# Altium schematic symbol library Miscellaneous.SchLib: 28 symbols
Pins are listed as number, name and electrical type; pins without a type are passive.

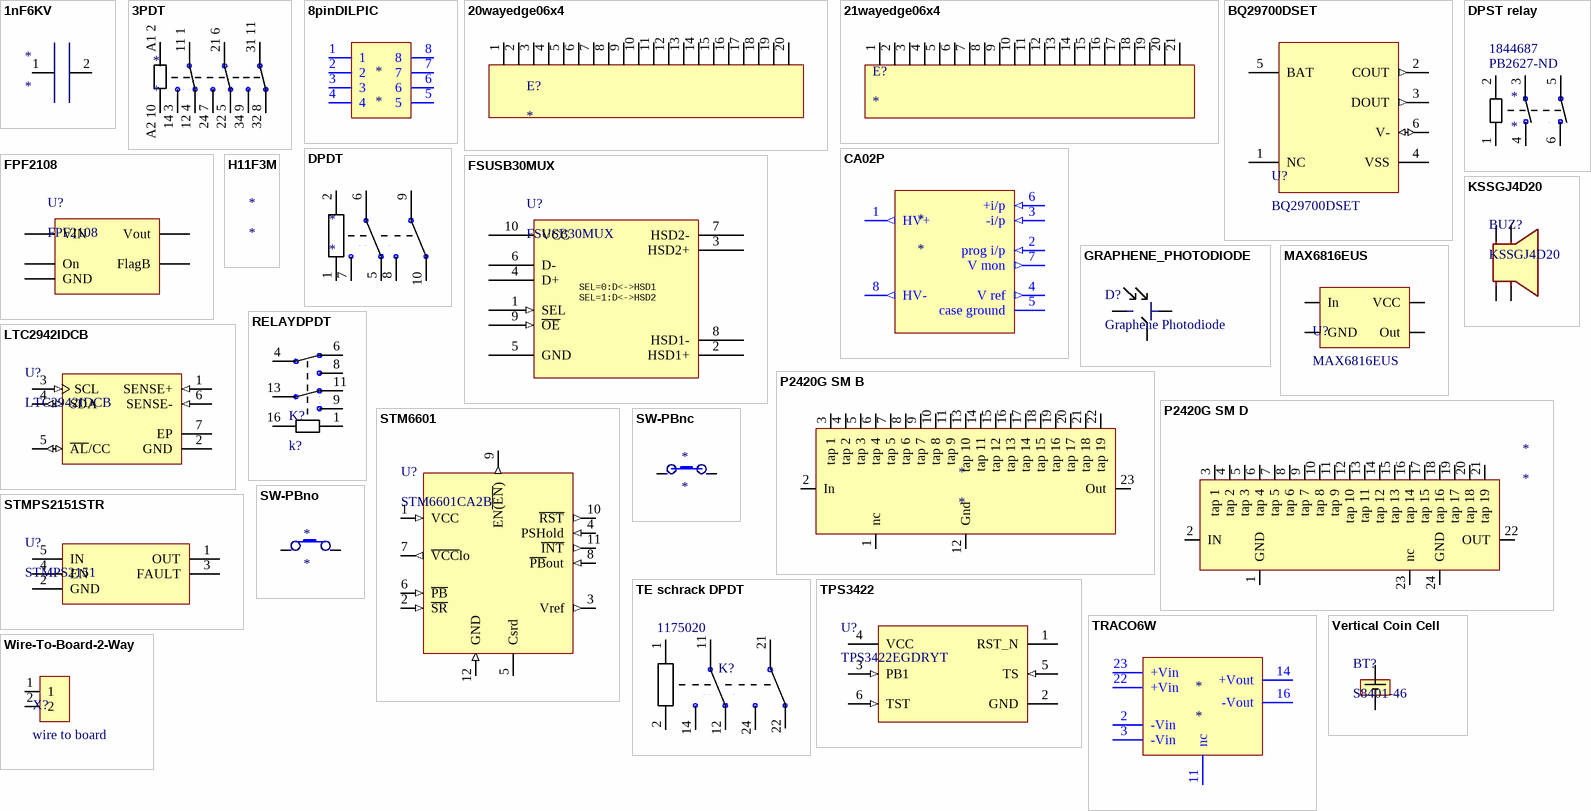
[diagram p0: symbols 1nF6KV to Wire-To-Board-2-Way]

## 1nF6KV
designator *
footprint 1nF@6KV; pin to pad 1>12 2>13
pins: 1, 2

## 3PDT
designator *
finder 60.13 relay
pins: 11 1 6, 12 4 5, 14 3 7, 21 6 9, 22 5 10, 24 7 8, 31 11 9, 32 8 10, 34 9 8, A1 2 A1, A2 10 A2

## 8pinDILPIC
designator *
footprint 8DIL PIC
pins: 1, 2, 3, 4, 5, 6, 7, 8

## 20wayedge06x4
designator E?
20wayedge06x4
footprint 20wayedge06x4
pins: 1, 2, 3, 4, 5, 6, 7, 8, 9, 10, 11, 12, 13, 14, 15, 16, 17, 18, 19, 20

## 21wayedge06x4
designator E?
footprint 21wayedge06x4
pins: 1, 2, 3, 4, 5, 6, 7, 8, 9, 10, 11, 12, 13, 14, 15, 16, 17, 18, 19, 20, 21

## BQ29700DSET
designator U?
Battery Cell Protection Device; Supplier 1: Farnell; Supplier Part Number 1: 2425793
footprint BQ29700DSET (Battery protection)
pins: 1 NC, 2 COUT (out), 3 DOUT (out), 4 VSS (power), 5 BAT (power), 6 V- (io)

## CA02P
designator *
footprint CA02P (emco HV module)
pins: 1 HV+ (out), 2 prog i/p (in), 3 -i/p (in), 4 V ref (out), 5 case ground, 6 +i/p (in), 7 V mon (out), 8 HV- (out)

## DPDT
designator *
footprint DPDT (5V 15A Realy)
pins: 1, 2, 5, 6, 7, 8, 9, 10

## DPST relay
designator *  Supplier Part Number 1: PB2627-ND  Supplier Part Number 2: 1844687
Supplier 1: Digi-Key; Supplier 2: Farnell
footprint RZ relay (RZ03-1C4-D005)
pins: 1, 2, 3, 4, 5, 6

## FPF2108
designator U?
200mA current limit; Supplier 1: Mouser; Supplier 2: Farnell; Supplier Part Number 1: 512-FPF2108; Supplier Part Number 2: 1084443
footprint FPF2108-FPF2110 (current limit 200mA)
pins: 1 VIN, 2 GND, 3 On, 4 FlagB, 5 Vout

## FSUSB30MUX
designator U?
USB 2.0 switch; Supplier 1: Farnell; Supplier Part Number 1: 1495465
footprint FSUSB30MUX (USB 2.0 switch, MSOP package)
pins: 1 SEL (in), 2 HSD1+, 3 HSD2+, 4 D+, 5 GND (power), 6 D-, 7 HSD2-, 8 HSD1-, 9 ~{OE} (in), 10 VCC (power)
text: SEL=0:D<->HSD1 / SEL=1:D<->HSD2

## GRAPHENE_PHOTODIODE
designator D?, comment Graphene Photodiode
footprint GRAPHENE_PHOTODIODE
pins: 1, 2, 3

## H11F3M
designator *

## KSSGJ4D20
designator BUZ?
SMD Magnetic Buzzer; Supplier 1: Octopart; Supplier 2: Farnell; Supplier Part Number 1: RS Components - 7542062; Supplier Part Number 2: 2215091
footprint KSSGJ4D20 (SMD Magnetic Buzzer)
pins: 1, 2, 3, 4

## LTC2942IDCB
designator U?
Battery fuel guage; Supplier 1: Farnell; Supplier Part Number 1: 2075574
footprint LTC2942IDCB#PBF (Battery fuel guage)
pins: 1 SENSE+ (in) "Positive Current Sense Input and Power Supply. Connect to the load/charger side of the sense resistor. VSENSE+ operating range is 2.7V to 5.5V.", 2 GND (power) "Device Ground. Connect directly to the negative battery terminal.", 3 SCL (in) "Serial Bus Clock Input.", 4 SDA (io) "Serial Bus Data Input and Output.", 5 ~{AL}/CC (io) "Alert Output or Charge Complete Input.", 6 SENSE- (in) "Negative Current Sense Input.", 7 EP "Do Not Connect."

## MAX6816EUS
designator U?
Debounce switch; Supplier 1: Farnell; Supplier Part Number 1: 2519142
footprint MAX6816EUS
pins: 1 GND, 2 In, 3 Out, 4 VCC

## P2420G SM B
designator *
footprint P2420G SM B (delay line B)
pins: 1 nc, 2 In, 3 tap 1, 4 tap 2, 5 tap 3, 6 tap 4, 7 tap 5, 8 tap 6, 9 tap 7, 10 tap 8, 11 tap 9, 12 Gnd, 13 tap 10, 14 tap 11, 15 tap 12, 16 tap 13, 17 tap 14, 18 tap 15, 19 tap 16, 20 tap 17, 21 tap 18, 22 tap 19, 23 Out

## P2420G SM D
designator *
footprint P2420G SM D (SOP, 24-Leads, Body 33.25x11.00mm, Pitch 2.54mm, IPC Medium Density)
pins: 1 GND, 2 IN, 3 tap 1, 4 tap 2, 5 tap 3, 6 tap 4, 7 tap 5, 8 tap 6, 9 tap 7, 10 tap 8, 11 tap 9, 12 tap 10, 13 tap 11, 14 tap 12, 15 tap 13, 16 tap 14, 17 tap 15, 18 tap 16, 19 tap 17, 20 tap 18, 21 tap 19, 22 OUT, 23 nc, 24 GND

## RELAYDPDT
designator K?, comment k?
Supplier 1: Farnell; Supplier Part Number 1: 4219545
footprint RelayDPDT
pins: 1, 4, 6, 8, 9, 11, 13, 16

## STM6601
designator U?, comment STM6601CA2B
Push button controller for uC; Supplier 1: Mouser; Supplier 2: Farnell; Supplier Part Number 1: 511-STM6601CA2BDM6F; Supplier Part Number 2: 2460912
footprint STM6601 (Push button on/off control for uC)
pins: 1 VCC (in), 2 ~{SR} (in), 3 Vref (out), 4 PSHold (in), 5 Csrd, 6 ~{PB} (in), 7 ~{VCC}lo (out), 8 ~{PB}out (in), 9 EN~{(EN}) (out), 10 ~{RST} (out), 11 ~{INT} (out), 12 GND (in)

## STMPS2151STR
designator U?, comment STMPS2151
Enhanced single channel power switches; Supplier 1: Mouser; Supplier 2: Farnell; Supplier 3: RSComponents; Supplier Part Number 1: 511-STMPS2151STR; Supplier Part Number 2: 1842616; Supplier Part Number 3: 8805415
footprint STMPS2151 (Enhanced single channel power switches)
pins: 1 OUT, 2 GND, 3 FAULT, 4 EN, 5 IN

## SW-PBnc
designator *
pins: 1, 3

## SW-PBno
designator *
pins: 1, 3

## TE schrack DPDT
designator K?  Supplier Part Number 1: 1175020
Supplier 1: Farnell
footprint TE schrack DPDT (DPDT relay)
pins: 1, 2, 11, 12, 14, 21, 22, 24

## TPS3422
designator U?, comment TPS3422EGDRYT
Supervisory Circuits SGL CH Push Button Controller; Supplier 1: Mouser; Supplier 2: Farnell; Supplier Part Number 1: 595-TPS3422EGDRYT; Supplier Part Number 2: 2492411
footprint TPS3422 (Push button controller)
pins: 1 RST_N (oc), 2 GND (power), 3 PB1 (in), 4 VCC (power), 5 TS (in), 6 TST (in)

## TRACO6W
designator *
footprint TRACO6W (traco 5WI series 6W)
pins: 2 -Vin, 3 -Vin, 11 nc, 14 +Vout, 16 -Vout, 22 +Vin, 23 +Vin

## Vertical Coin Cell
designator BT?, comment S8401-46
Battery Holder, EZ-Coin; Supplier 1: Mouser; Supplier 2: Farnell; Supplier 3: RS Components; Supplier Part Number 1: 855-S8401-46; Supplier Part Number 2: 2115304; Supplier Part Number 3: 1613608
footprint S8401-46 (Coin cell holder - vertical)
pins: 1 negative, 2 Posative

## Wire-To-Board-2-Way
designator X?, comment wire to board
footprint Wire-to-board-2-way (Two wires to the board with strain relief)
pins: 1, 2